# EAGLE library part AS4C1M16S-7TCN (library Signetics)
AS4C1M16S-7TCN, SDRAM Memory 16Mbit Surface Mount, 143MHz, 3 3.6 V, 0 +70 C, 50-Pin, TSOP Source: Datasheet <https://www.alliancememory.com/wp-content/uploads/pdf/dram/Datasheet Alliance 16M-AS4C1M16S-CI_v2.0_March 2015.pdf>
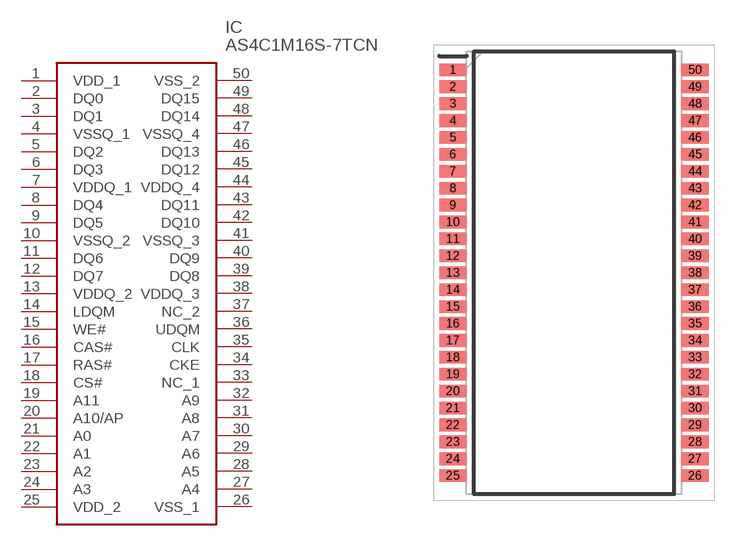
[diagram p19: symbol with the pads of SOP80P1176X120-50N; footprint SOP80P1176X120-50N]

Designator prefix IC

## AS4C1M16S-7TCN (DESCRIPTION: AS4C1M16S-7TCN, SDRAM Memory 16Mbit Surface Mount, 143MHz, 3 3.6 V, 0 +70 C, 50-Pin, TSOP; HEIGHT: 1.2mm; MANUFACTURER_NAME: Alliance Memory; MANUFACTURER_PART_NUMBER: AS4C1M16S-7TCN; MOUSER_PART_NUMBER: 913-AS4C1M16S-7TCN; MOUSER_PRICE-STOCK: https://www.mouser.co.uk/ProductDetail/Alliance-Memory/AS4C1M16S-7TCN?qs=qaMcOsTcLd%2FcrMHdvXdWXQ%3D%3D)  [SOP80P1176X120-50N]
1  VDD_1
2  DQ0
3  DQ1
4  VSSQ_1
5  DQ2
6  DQ3
7  VDDQ_1
8  DQ4
9  DQ5
10  VSSQ_2
11  DQ6
12  DQ7
13  VDDQ_2
14  LDQM
15  WE#
16  CAS#
17  RAS#
18  CS#
19  A11
20  A10/AP
21  A0
22  A1
23  A2
24  A3
25  VDD_2
26  VSS_1
27  A4
28  A5
29  A6
30  A7
31  A8
32  A9
33  NC_1
34  CKE
35  CLK
36  UDQM
37  NC_2
38  VDDQ_3
39  DQ8
40  DQ9
41  VSSQ_3
42  DQ10
43  DQ11
44  VDDQ_4
45  DQ12
46  DQ13
47  VSSQ_4
48  DQ14
49  DQ15
50  VSS_2

## Footprint SOP80P1176X120-50N (pad centres in mm)
50 Pin TSOP
smd 1.295 x 0.6: 1 -5.728,9.6; 2 -5.728,8.8; 3 -5.728,8; 4 -5.728,7.2; 5 -5.728,6.4; 6 -5.728,5.6; 7 -5.728,4.8; 8 -5.728,4; 9 -5.728,3.2; 10 -5.728,2.4; 11 -5.728,1.6; 12 -5.728,0.8; 13 -5.728,0; 14 -5.728,-0.8; 15 -5.728,-1.6; 16 -5.728,-2.4; 17 -5.728,-3.2; 18 -5.728,-4; 19 -5.728,-4.8; 20 -5.728,-5.6; 21 -5.728,-6.4; 22 -5.728,-7.2; 23 -5.728,-8; 24 -5.728,-8.8; 25 -5.728,-9.6; 26 5.728,-9.6; 27 5.728,-8.8; 28 5.728,-8; 29 5.728,-7.2; 30 5.728,-6.4; 31 5.728,-5.6; 32 5.728,-4.8; 33 5.728,-4; 34 5.728,-3.2; 35 5.728,-2.4; 36 5.728,-1.6; 37 5.728,-0.8; 38 5.728,0; 39 5.728,0.8; 40 5.728,1.6; 41 5.728,2.4; 42 5.728,3.2; 43 5.728,4; 44 5.728,4.8; 45 5.728,5.6; 46 5.728,6.4; 47 5.728,7.2; 48 5.728,8; 49 5.728,8.8; 50 5.728,9.6